# Altium footprint library 115A-ADA0-R02.PcbLib: 1 footprints
Each footprint in its own frame and in the unit in brackets; x right, y up, seen from the top. Pads: shape width x height; smd on the part's side, far side on the other; paste and mask are expansions set on the pad; w line width, h text height; cw(c..) or ccw(c..) is an arc to the next point about the centre after c.
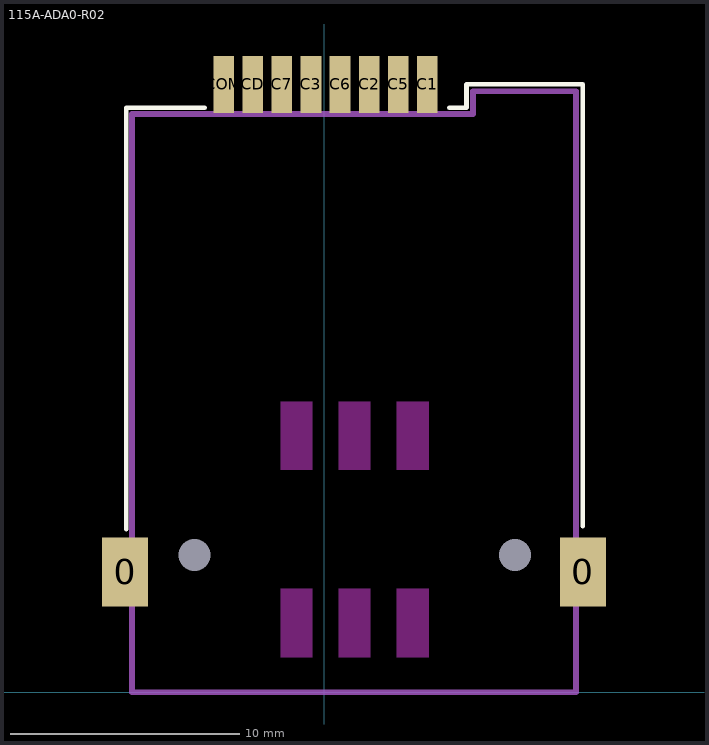
[diagram p0: the footprint, top view; thin cyan lines are the x and y axes]

## 115A-ADA0-R02 [mm]
pads (12):
  rect 2x3 smd: 0(-8.69,5.25) 0(11.31,5.25)
  rect 0.9x2.5 smd: C1(4.51,26.543) C2(1.97,26.543) C3(-0.57,26.543) C5(3.24,26.543) C6(0.7,26.543) C7(-1.84,26.543) CD(-3.11,26.543) COM(-4.38,26.543)
  rect 0x0 hole 1.4 unplated: MH(-5.66,6) MH(8.34,6)
Top Layer keep-out:
  region: 4.575,9.7 4.575,12.7 3.175,12.7 3.175,9.7
  region: 2.035,9.7 2.035,12.7 0.635,12.7 0.635,9.7
  region: -0.505,9.7 -0.505,12.7 -1.905,12.7 -1.905,9.7
  region: 2.035,1.524 2.035,4.524 0.635,4.524 0.635,1.524
  region: 4.575,1.524 4.575,4.524 3.175,4.524 3.175,1.524
  region: -0.505,1.524 -0.505,4.524 -1.905,4.524 -1.905,1.524
Top Overlay:
  lines w0.2: -8.636,7.112 -8.636,25.527 -5.207,25.527 ; 5.461,25.527 6.223,25.527 6.223,26.543 11.303,26.543 11.303,7.239
Mechanical 13:
  lines w0.25: -8.39,0 -8.39,25.25 6.51,25.25 6.51,26.25 11.01,26.25 11.01,0 -8.39,0
  text ".Designator" at -2.032,22.606 h1.5
3D body: height 1.32, standoff 0.52, extent -7.747,-1.778 7.493,23.368
3D body: height 1.8, standoff 0, extent -8.389,0.001 11.009,26.249